# EAGLE library part BLUEDOT-BNO055 (library HeRo)
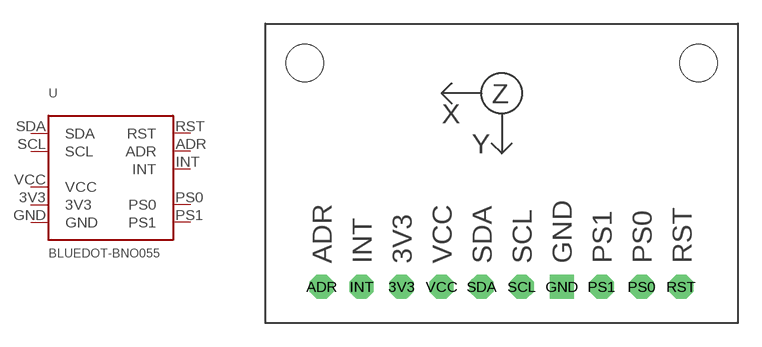
[diagram p8: symbol with the pads of BLUEDOT-BNO055; footprint BLUEDOT-BNO055]

Designator prefix -

## BLUEDOT-BNO055  [BLUEDOT-BNO055]
3V3  3V3
ADR  ADR
GND  GND
INT  INT
PS0  PS0
PS1  PS1
RST  RST
SCL  SCL
SDA  SDA
VCC  VCC

## Footprint BLUEDOT-BNO055 (pad centres in mm)
drill 1.016 octagon: 3V3 -6.35,-7.2; ADR -11.43,-7.2; INT -8.89,-7.2; PS0 8.89,-7.2; PS1 6.35,-7.2; RST 11.4,-7.2; SCL 1.27,-7.2; SDA -1.27,-7.2; VCC -3.81,-7.2
drill 1.016 square: GND 3.81,-7.2
hole 2.4 at -12.5,7
hole 2.4 at 12.5,7